# Altium footprint library MCU Module V1.1(ASCII).PcbLib: 14 footprints
Each footprint in its own frame and in the unit in brackets; x right, y up, seen from the top. Pads: shape width x height; smd on the part's side, far side on the other; paste and mask are expansions set on the pad; w line width, h text height; cw(c..) or ccw(c..) is an arc to the next point about the centre after c.
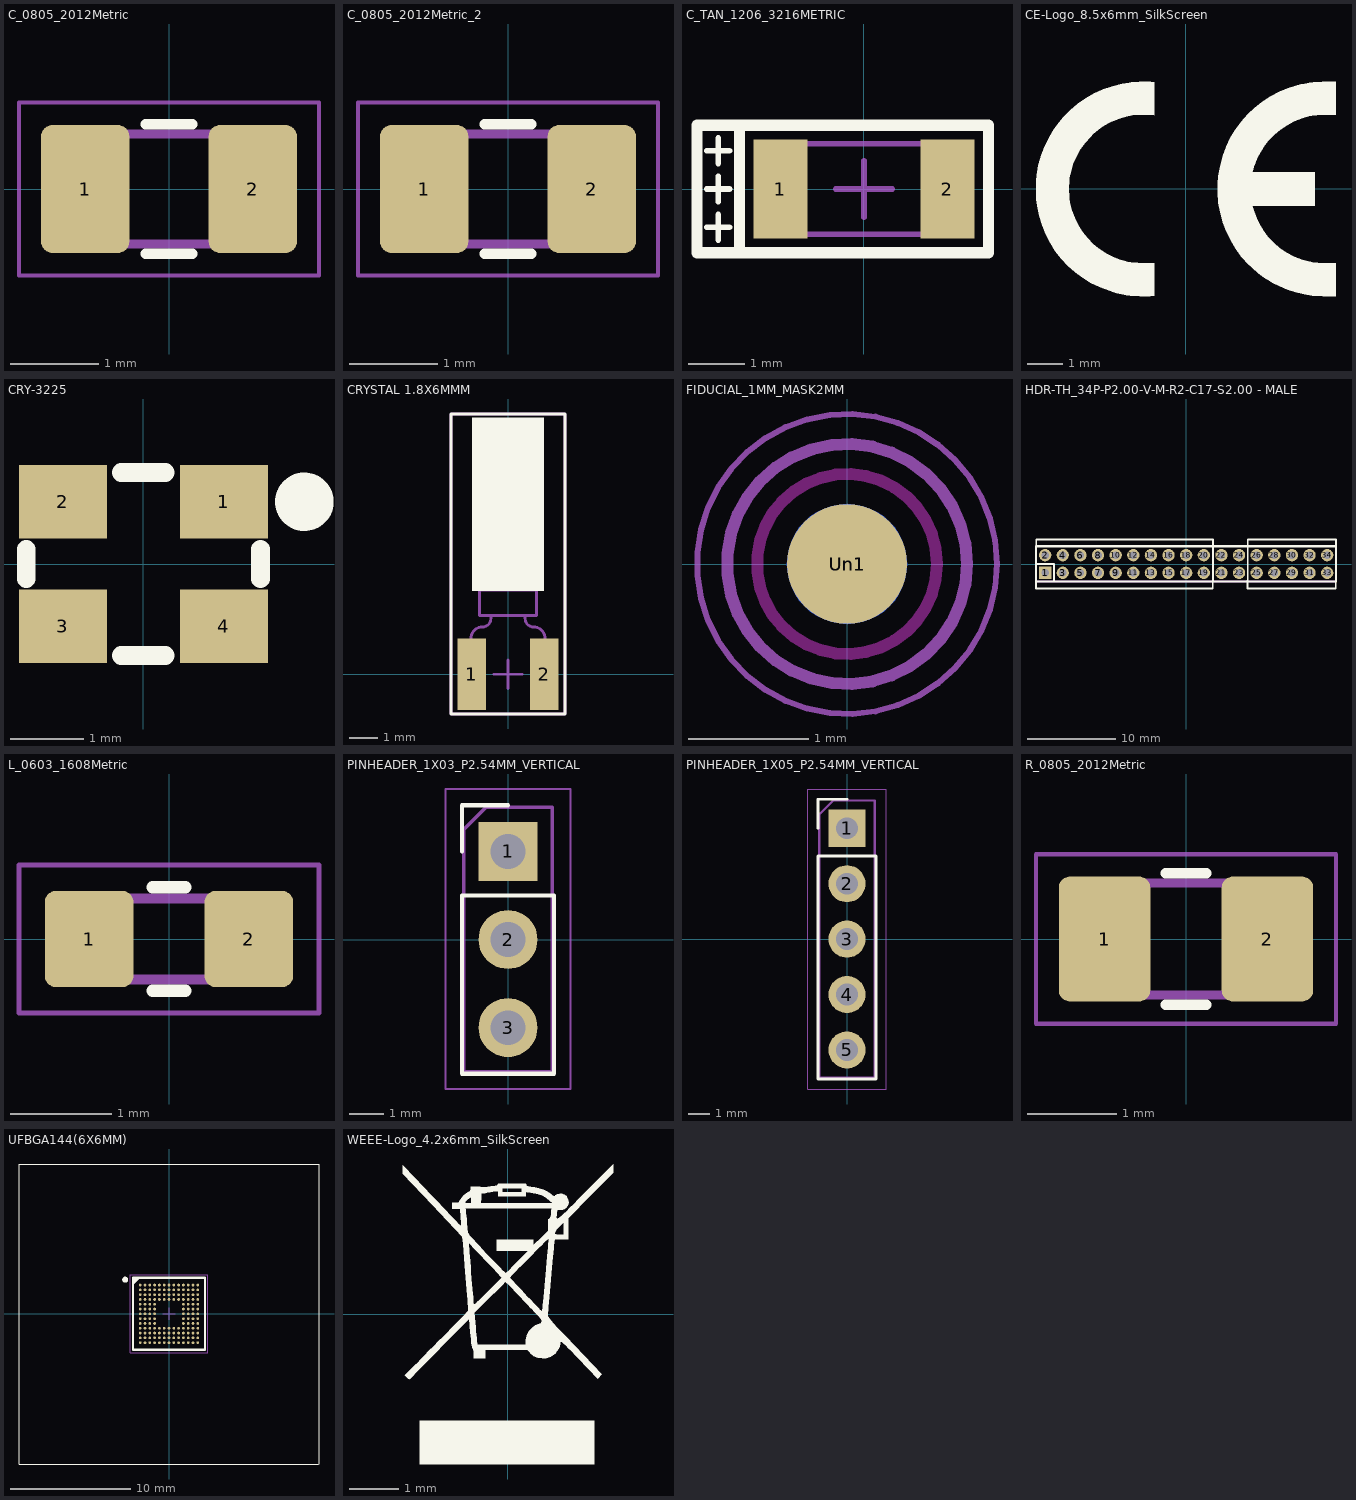
[diagram p0: the footprints below, top view; thin cyan lines are the x and y axes]

## C_0805_2012Metric [mm]
pads (2):
  rrect25% 1x1.45 smd: 1(-0.95,0) 2(0.95,0)
Top Overlay:
  lines w0.12: -0.261,-0.735 0.261,-0.735 ; -0.261,0.735 0.261,0.735
Mechanical 4:
  lines w0.05: -1.7,-0.98 1.7,-0.98 1.7,0.98 -1.7,0.98 -1.7,-0.98
Mechanical 6:
  lines w0.1: -1,-0.625 1,-0.625 1,0.625 -1,0.625 -1,-0.625
3D body "User Library-CAPC2013X10.step": height 1, standoff 0, extent -1,-0.625 1,0.625

## C_0805_2012Metric_2 [mm]
pads (2):
  rrect25% 1x1.45 smd mask+0: 1(-0.95,0) 2(0.95,0)
Top Overlay:
  lines w0.12: -0.261,-0.735 0.261,-0.735 ; -0.261,0.735 0.261,0.735
Mechanical 4:
  lines w0.05: -1.7,-0.98 1.7,-0.98 1.7,0.98 -1.7,0.98 -1.7,-0.98
Mechanical 6:
  lines w0.1: -1,-0.625 1,-0.625 1,0.625 -1,0.625 -1,-0.625
3D body "User Library-CAPC2013X10.step": height 1, standoff 0, extent -1,-0.625 1,0.625

## C_TAN_1206_3216METRIC [mm] "SMD capacitors: 3216-18 EIA Case 1206, polarized"
height 1.5
pads (2):
  rect 0.95x1.75 smd: 1(-1.475,0) 2(1.475,0)
Top Overlay:
  lines w0.1: -2.775,-0.675 -2.375,-0.675 ; -2.775,0 -2.375,0 ; -2.775,0.675 -2.375,0.675 ; -2.575,-0.9 -2.575,-0.45 ; -2.575,-0.225 -2.575,0.225 ; -2.575,0.45 -2.575,0.9
  lines w0.2: -2.2,-1.125 2.2,-1.125 2.2,1.125 -2.2,1.125 ; -2.2,-1.125 -2.95,-1.125 -2.95,1.125 -2.2,1.125 ; -2.2,-1.125 -2.2,1.125
Mechanical 13:
  lines w0.1: -1.6,-0.8 1.6,-0.8 1.6,0.8 -1.6,0.8 -1.6,-0.8
Mechanical 15:
  lines w0.1: -0.5,0 0.5,0 ; 0,-0.5 0,0.5 ; -2.2,-1.125 2.2,-1.125 2.2,1.125 -2.2,1.125 -2.2,-1.125
3D body "A 3216-18.step": height 1.61, standoff 0, extent -1.6,-0.8 1.6,0.8

## CE-Logo_8.5x6mm_SilkScreen [mm]
Top Overlay:
  drawing of 2 lines, arcs and shapes, not listed

## CRY-3225 [mm] "CRY-3225"
pads (4):
  rect 1.2x1 smd paste+0 mask+0.05: 1(1.1,0.85) 2(-1.1,0.85) 3(-1.1,-0.85) 4(1.1,-0.85)
Top Overlay:
  circle w0.4: c2.2,0.85 r0.2
  lines w0.254: -1.6,-0.2 -1.6,0.2 ; -0.3,-1.25 0.3,-1.25 ; -0.3,1.25 0.3,1.25 ; 1.6,-0.2 1.6,0.2
3D body "3225 SMD Crystal Oscillator.x_b": height 0.71, standoff 0.01, extent -1.6,-1.25 1.6,1.25

## CRYSTAL 1.8X6MMM [mm]
height 0.9
pads (2):
  rect 1x2.5 smd: 1(-1.27,0) 2(1.27,0)
Top Overlay:
  rectangle: -1.27,2.921 1.27,9.017
  lines w0.1: -2,-1.397 2,-1.397 2,9.144 -2,9.144 -2,-1.397
Mechanical 13:
  lines w0.1: -1.3,0.062 -1.3,1.262 cw(c-0.9,1.262) -0.9,1.662 ccw(c-0.9,1.962) -0.6,1.962 -0.6,2.062 ; -1,2.962 1,2.962 ; 0.6,2.062 0.6,1.962 ccw(c0.9,1.962) 0.9,1.662 cw(c0.9,1.262) 1.3,1.262 1.3,0.062 ; -1,2.062 -1,8.162 1,8.162 1,2.062 -1,2.062
Mechanical 15:
  lines w0.1: -0.5,0 0.5,0 ; 0,-0.5 0,0.5 ; -2,-1.397 -2,9.144 2,9.144 2,-1.397 -2,-1.397
3D body "Download_STP_830025159 (rev1).stp": height 1.8, standoff 0, extent -1.395,0 1.395,9

## FIDUCIAL_1MM_MASK2MM [mm]
pads (2):
  round 1 smd mask+0.102: Un1(0,0)
  round 1 smd far side: Un1(0,0)
Keep-Out Layer:
  circle w0.1: c0,0 r0.75
Mechanical 4:
  circle w0.05: c0,0 r1.25
Mechanical 6:
  circle w0.1: c0,0 r1

## HDR-TH_34P-P2.00-V-M-R2-C17-S2.00 - MALE [mm]
pads (34):
  rect 1.4x1.4 hole 0.85: 1(-16,-1)
  round 1.4 hole 0.85: 2(-16,1) 3(-14,-1) 4(-14,1) 5(-12,-1) 6(-12,1) 7(-10,-1) 8(-10,1) 9(-8,-1) 10(-8,1) 11(-6,-1) 12(-6,1) 13(-4,-1) 14(-4,1) 15(-2,-1) 16(-2,1) 17(0,-1) 18(0,1) 19(2,-1) 20(2,1) 21(4,-1) 22(4,1) 23(6,-1) 24(6,1) 25(8,-1) 26(8,1) 27(10,-1) 28(10,1) 29(12,-1) 30(12,1) 31(14,-1) 32(14,1) 33(16,-1) 34(16,1)
Top Overlay:
  lines w0.2: -17.038,-1.968 -17.038,-2.794 3.028,-2.794 3.028,-1.862 ; -17.018,2.011 -17.018,2.794 3.048,2.794 3.048,1.905 3.048,-2.032 ; 6.965,-1.862 6.965,-2.794 16.98,-2.794 16.98,-1.966 ; 6.985,-2.032 6.985,1.905 6.985,2.794 17,2.794 17,2.009
  lines w0.254: -17.038,-1.989 -17.038,2.011 ; -17,-1.999 17,-1.999 ; -17,0 -15,0 -15,-1.999 ; -17,2.021 17,2.021 ; 17,-1.991 17,2.009
Mechanical 13:
  lines w0.2: -17.038,-1.989 -17.038,2.021 17,2.021 17,-1.979 16.99,-1.989 -17.038,-1.989
3D body "pin header 1x5 pitch 2mm heigth 5mm.stp": height 6.01, standoff -2.69, extent 7.065,0 17.065,2
3D body "pin header 1x5 pitch 2mm heigth 5mm.stp": height 6.01, standoff -2.69, extent 7.065,-2 17.065,0
3D body "pin header 1x5 pitch 2mm heigth 5mm.stp": height 6.01, standoff -2.69, extent -16.935,0 -6.935,2
3D body "pin header 1x5 pitch 2mm heigth 5mm.stp": height 6.01, standoff -2.69, extent -16.935,-2 -6.935,0
3D body "pin header 1x5 pitch 2mm heigth 5mm.stp": height 6.01, standoff -2.69, extent -6.935,0 3.065,2
3D body "pin header 1x5 pitch 2mm heigth 5mm.stp": height 6.01, standoff -2.69, extent -6.935,-2 3.065,0

## L_0603_1608Metric [mm]
pads (2):
  rrect25% 0.875x0.95 smd mask+0: 1(-0.788,0) 2(0.788,0)
Top Overlay:
  lines w0.12: -0.163,-0.51 0.163,-0.51 ; -0.163,0.51 0.163,0.51
Mechanical 4:
  lines w0.05: -1.48,-0.73 -1.48,0.73 1.48,0.73 1.48,-0.73 -1.48,-0.73
Mechanical 6:
  lines w0.1: -0.8,-0.4 -0.8,0.4 0.8,0.4 0.8,-0.4 -0.8,-0.4
3D body "User Library-Chip Inductor0603.step": height 0.95, standoff 0, extent -0.8,-0.4 0.8,0.4

## PINHEADER_1X03_P2.54MM_VERTICAL [mm]
pads (3):
  rect 1.7x1.7 hole 1: 1(0,2.54)
  rrect100% 1.7x1.7 hole 1: 2(0,0) 3(0,-2.54)
Top Overlay:
  lines w0.12: -1.33,2.54 -1.33,3.87 0,3.87 ; -1.33,-3.87 1.33,-3.87 1.33,1.27 -1.33,1.27 -1.33,-3.87
Mechanical 4:
  lines w0.05: -1.8,-4.31 -1.8,4.34 1.8,4.34 1.8,-4.31 -1.8,-4.31
Mechanical 6:
  lines w0.1: -1.27,-3.81 1.27,-3.81 1.27,3.81 -0.635,3.81 -1.27,3.175 -1.27,-3.81
3D body "Pin Header 1x3 TH Pitch 2.54mm.stp": height 9.5, standoff -3.2, extent -1.27,-3.81 1.27,3.81

## PINHEADER_1X05_P2.54MM_VERTICAL [mm]
pads (5):
  rect 1.7x1.7 hole 1: 1(0,5.08)
  rrect100% 1.7x1.7 hole 1: 2(0,2.54) 3(0,0) 4(0,-2.54) 5(0,-5.08)
Top Overlay:
  lines w0.12: -1.33,5.08 -1.33,6.41 0,6.41 ; -1.33,-6.41 1.33,-6.41 1.33,3.81 -1.33,3.81 -1.33,-6.41
Mechanical 4:
  lines w0.05: -1.8,-6.87 -1.8,6.88 1.8,6.88 1.8,-6.87 -1.8,-6.87
Mechanical 6:
  lines w0.1: -1.27,-6.35 1.27,-6.35 1.27,6.35 -0.635,6.35 -1.27,5.715 -1.27,-6.35
3D body "Pin Header 1x5 TH Pitch 2.54mm.stp": height 9.5, standoff -3.2, extent -1.27,-6.35 1.27,6.35

## R_0805_2012Metric [mm]
pads (2):
  rrect24% 1.025x1.4 smd: 1(-0.913,0) 2(0.913,0)
Top Overlay:
  lines w0.12: -0.227,-0.735 0.227,-0.735 ; -0.227,0.735 0.227,0.735
Mechanical 4:
  lines w0.05: -1.68,-0.95 -1.68,0.95 1.68,0.95 1.68,-0.95 -1.68,-0.95
Mechanical 6:
  lines w0.1: -1,-0.625 -1,0.625 1,0.625 1,-0.625 -1,-0.625
3D body "User Library-RES_2013-0805.step": height 0.76, standoff 0, extent -1.15,-0.675 1.15,0.675

## UFBGA144(6X6MM) [mm] "BGA, 144-Leads, Body 6.00x6.00mmx0.60mm, Pitch 0.40mm"
height 0.6
pads (144):
  round 0.229 smd: A1(-2.4,2.4) A2(-2,2.4) A3(-1.6,2.4) A4(-1.2,2.4) A5(-0.8,2.4) A6(-0.4,2.4) A7(0,2.4) A8(0.4,2.4) A9(0.8,2.4) A10(1.2,2.4) A11(1.6,2.4) A12(2,2.4) A13(2.4,2.4) B1(-2.4,2) B2(-2,2) B3(-1.6,2) B4(-1.2,2) B5(-0.8,2) B6(-0.4,2) B7(0,2) B8(0.4,2) B9(0.8,2) B10(1.2,2) B11(1.6,2) B12(2,2) B13(2.4,2) C1(-2.4,1.6) C2(-2,1.6) C3(-1.6,1.6) C4(-1.2,1.6) C5(-0.8,1.6) C6(-0.4,1.6) C7(0,1.6) C8(0.4,1.6) C9(0.8,1.6) C10(1.2,1.6) C11(1.6,1.6) C12(2,1.6) C13(2.4,1.6) D1(-2.4,1.2) D2(-2,1.2) D3(-1.6,1.2) D4(-1.2,1.2) D5(-0.8,1.2) D6(-0.4,1.2) D7(0,1.2) D8(0.4,1.2) D9(0.8,1.2) D10(1.2,1.2) D11(1.6,1.2) D12(2,1.2) D13(2.4,1.2) E1(-2.4,0.8) E2(-2,0.8) E3(-1.6,0.8) E4(-1.2,0.8) E10(1.2,0.8) E11(1.6,0.8) E12(2,0.8) E13(2.4,0.8) F1(-2.4,0.4) F2(-2,0.4) F3(-1.6,0.4) F4(-1.2,0.4) F10(1.2,0.4) F11(1.6,0.4) F12(2,0.4) F13(2.4,0.4) G1(-2.4,0) G2(-2,0) G3(-1.6,0) G4(-1.2,0) G10(1.2,0) G11(1.6,0) G12(2,0) G13(2.4,0) H1(-2.4,-0.4) H2(-2,-0.4) H3(-1.6,-0.4) H4(-1.2,-0.4) H10(1.2,-0.4) H11(1.6,-0.4) H12(2,-0.4) H13(2.4,-0.4) J1(-2.4,-0.8) J2(-2,-0.8) J3(-1.6,-0.8) J4(-1.2,-0.8) J10(1.2,-0.8) J11(1.6,-0.8) J12(2,-0.8) J13(2.4,-0.8) K1(-2.4,-1.2) K2(-2,-1.2) K3(-1.6,-1.2) K4(-1.2,-1.2) K5(-0.8,-1.2) K6(-0.4,-1.2) K7(0,-1.2) K8(0.4,-1.2) K9(0.8,-1.2) K10(1.2,-1.2) K11(1.6,-1.2) K12(2,-1.2) K13(2.4,-1.2) L1(-2.4,-1.6) L2(-2,-1.6) L3(-1.6,-1.6) L4(-1.2,-1.6) L5(-0.8,-1.6) L6(-0.4,-1.6) L7(0,-1.6) L8(0.4,-1.6) L9(0.8,-1.6) L10(1.2,-1.6) L11(1.6,-1.6) L12(2,-1.6) L13(2.4,-1.6) M1(-2.4,-2) M2(-2,-2) M3(-1.6,-2) M4(-1.2,-2) M5(-0.8,-2) M6(-0.4,-2) M7(0,-2) M8(0.4,-2) M9(0.8,-2) M10(1.2,-2) M11(1.6,-2) M12(2,-2) M13(2.4,-2) N1(-2.4,-2.4) N2(-2,-2.4) N3(-1.6,-2.4) N4(-1.2,-2.4) N5(-0.8,-2.4) N6(-0.4,-2.4) N7(0,-2.4) N8(0.4,-2.4) N9(0.8,-2.4) N10(1.2,-2.4) N11(1.6,-2.4) N12(2,-2.4) N13(2.4,-2.4)
Top Overlay:
  circle w0.25: c-3.65,2.85 r0.125
  region: -2.542,3 -3,2.542 -3,3
  lines w0.1: 12.45,-12.512 -12.5,-12.512 -12.5,12.488 12.5,12.488 12.5,-12.512
  lines w0.2: -3,2.542 -2.542,3 ; -3,-3 3,-3 3,3 -3,3 -3,-3
Mechanical 13:
  lines w0.1: -3,-3 3,-3 3,3 -3,3 -3,-3
Mechanical 15:
  lines w0.05: -3.25,-3.25 3.25,-3.25 3.25,3.25 -3.25,3.25 -3.25,-3.25
  lines w0.1: -0.5,0 0.5,0 ; 0,-0.5 0,0.5
3D body "UFBGA144_6X6_MCH.step": height 0.61, standoff 0, extent -2.997,-2.997 2.997,2.997

## WEEE-Logo_4.2x6mm_SilkScreen [mm]
Top Overlay:
  drawing of 2 lines, arcs and shapes, not listed